# Altium footprint library 51单片机24.PCBLIB: 45 footprints (part 2 of 3)
Each footprint in its own frame and in the unit in brackets; x right, y up, seen from the top. Pads: shape width x height; smd on the part's side, far side on the other; paste and mask are expansions set on the pad; w line width, h text height; cw(c..) or ccw(c..) is an arc to the next point about the centre after c.
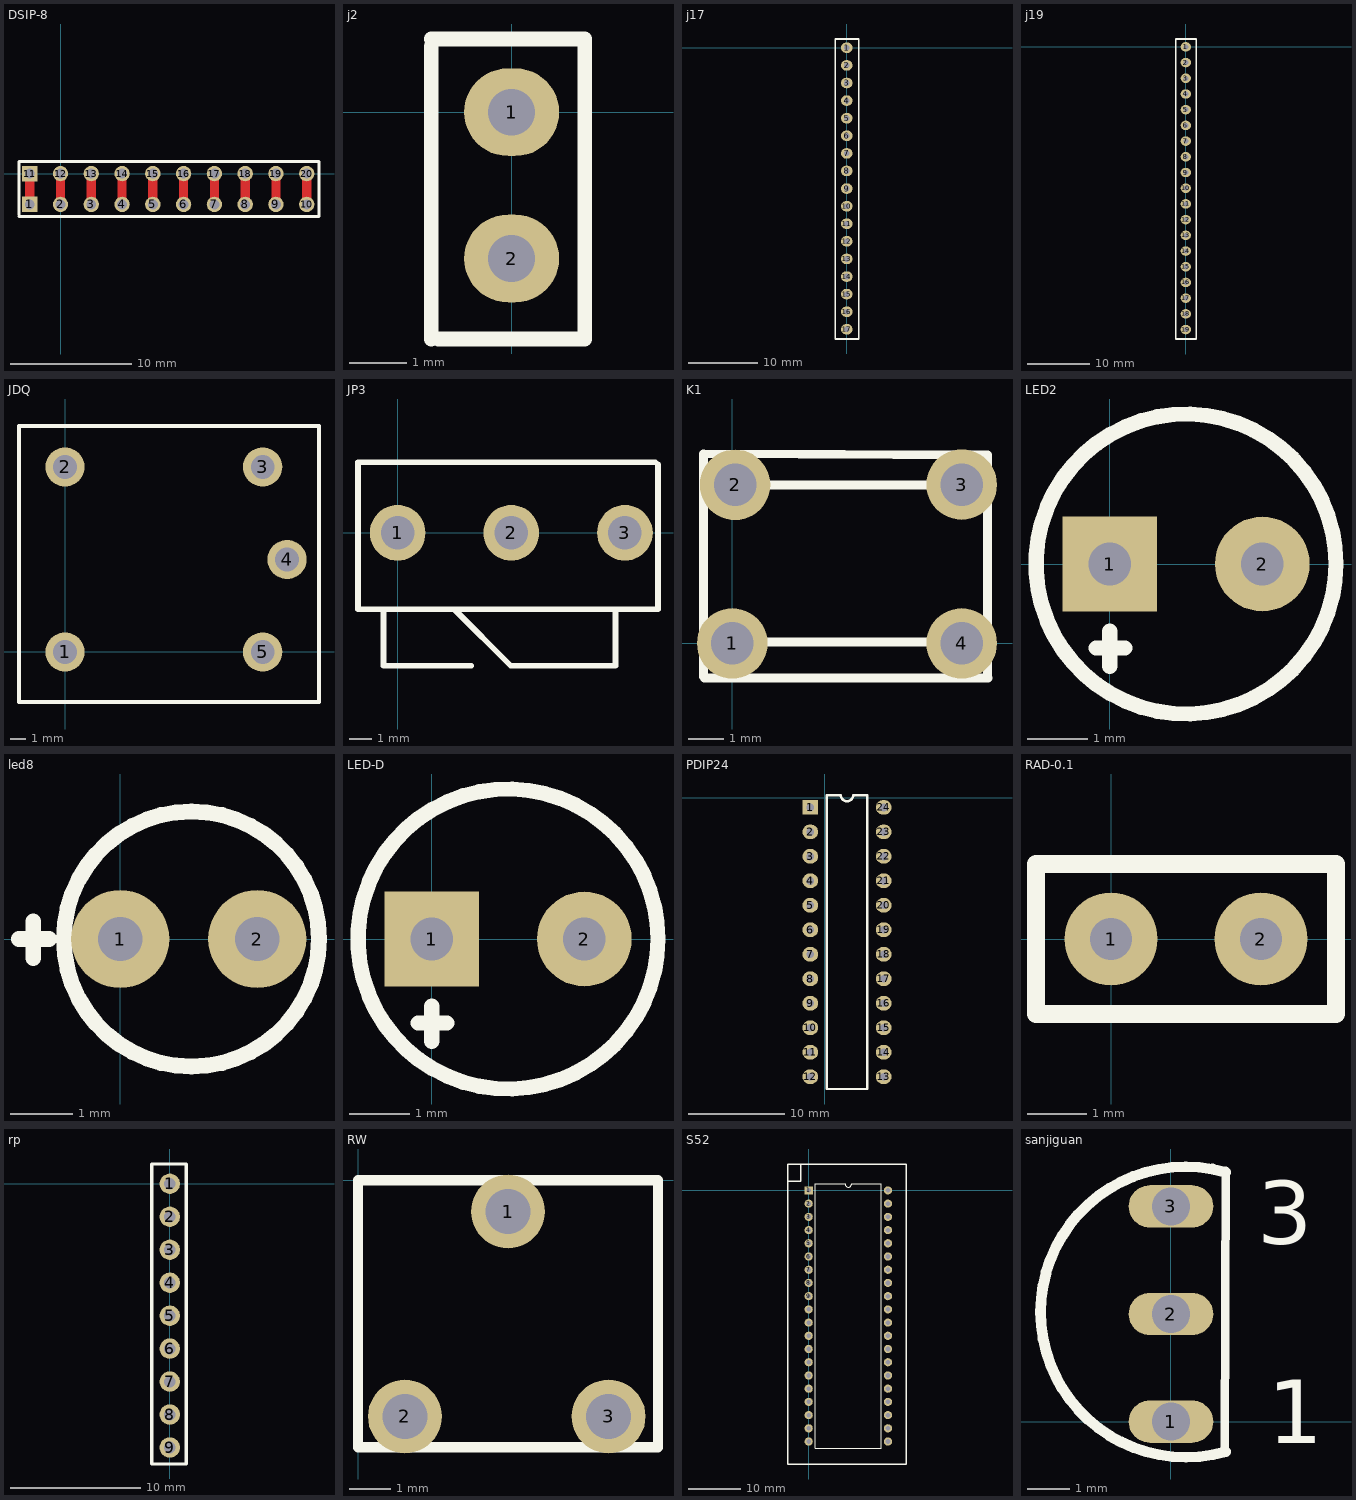
[diagram p1: the footprints below, top view; thin cyan lines are the x and y axes]

## DSIP-8 [mil]
pads (20):
  rect 50x50 hole 32: 1(-100,-100) 11(-100,0)
  round 50 hole 32: 2(0,-100) 3(100,-100) 4(200,-100) 5(300,-100) 6(400,-100) 7(500,-100) 8(600,-100) 9(700,-100) 10(800,-100) 12(0,0) 13(100,0) 14(200,0) 15(300,0) 16(400,0) 17(500,0) 18(600,0) 19(700,0) 20(800,0)
TopLayer:
  lines w30: -100,-80 -100,0 ; 0,-100 0,0 ; 100,-100 100,0 ; 200,-100 200,0 ; 300,-100 300,0 ; 400,-100 400,0 ; 500,-100 500,0 ; 600,-100 600,0 ; 700,-100 700,0 ; 800,-100 800,0
TopOverlay:
  lines w10: -135,-140 840,-140 840,40 -135,40 -135,-135

## j2 [mil]
pads (2):
  oval 65x60 hole 32: 1(0,0) 2(0,-100)
TopOverlay:
  lines w10: -55,-155 -55,45 ; -55,50 50,50 50,-155 -50,-155

## j17 [mil]
pads (17):
  oval 65x60 hole 32: 1(0,0) 2(0,-100) 3(0,-200) 4(0,-300) 5(0,-400) 6(0,-500) 7(0,-600) 8(0,-700) 9(0,-800) 10(0,-900) 11(0,-1000) 12(0,-1100) 13(0,-1200) 14(0,-1300) 15(0,-1400) 16(0,-1500) 17(0,-1600)
TopOverlay:
  lines w10: 65,50 -65,50 -65,-1655 67.5,-1655 67.5,50

## j19 [mil]
pads (19):
  oval 65x60 hole 32: 1(0,0) 2(0,-100) 3(0,-200) 4(0,-300) 5(0,-400) 6(0,-500) 7(0,-600) 8(0,-700) 9(0,-800) 10(0,-900) 11(0,-1000) 12(0,-1100) 13(0,-1200) 14(0,-1300) 15(0,-1400) 16(0,-1500) 17(0,-1600) 18(0,-1700) 19(0,-1800)
TopOverlay:
  lines w10: 65,50 -65,50 -65,-1860 67.5,-1860 67.5,50

## JDQ [mm]
pads (5):
  round 2.5 hole 1.5: 1(0,0) 2(0,11.75) 3(12.55,11.75) 4(14.1,5.875) 5(12.55,0)
TopOverlay:
  lines w0.254: -2.921,-3.175 16.129,-3.175 16.129,14.351 -2.921,14.351 -2.921,-3.175

## JP3 [mm]
pads (3):
  round 2.5 hole 1.5: 1(0,0) 2(5.1,0) 3(10.2,0)
TopOverlay:
  lines w0.254: -1.778,3.071 -1.778,-3.429 11.684,-3.429 11.684,3.071 ; -1.778,3.175 11.557,3.175 ; -0.635,-3.541 -0.635,-5.969 3.302,-5.969 ; 2.413,-3.429 2.54,-3.429 5.08,-5.969 9.779,-5.969 9.779,-3.421

## K1 [mm]
pads (4):
  round 2 hole 1.2: 1(0,0) 2(0.079,4.493) 3(6.5,4.5) 4(6.5,0)
TopLayer:
  lines w0: 0.016,4.463 0.016,4.464
TopOverlay:
  lines w0.254: -0.82,-0.94 -0.81,5.374 7.23,5.342 7.228,-0.982 ; -0.792,-0.98 7.25,-0.98 ; 0.079,4.493 6.683,4.493 ; 0.163,0.04 6.64,0.04

## LED2 [mil]
pads (2):
  rect 62x62 hole 28: 1(0,0)
  round 62 hole 28: 2(100,0)
TopOverlay:
  circle w10: c50,0 r98.23
  lines w10: -9,-55 10,-55 ; 0,-67 0,-44

## led8 [mil]
pads (2):
  round 62 hole 28: 1(0,0) 2(86.61,0)
TopOverlay:
  circle w10: c45,0 r80.62
  lines w10: -64,0 -45,0 ; -55,-12 -55,11

## LED-D [mil]
pads (2):
  rect 62x62 hole 28: 1(0,0)
  round 62 hole 28: 2(100,0)
TopOverlay:
  circle w10: c50,0 r98.23
  lines w10: -9,-55 10,-55 ; 0,-67 0,-44

## PDIP24 [mil]
pads (24):
  rect 65x60 hole 32: 1(-60,-40)
  oval 65x60 hole 32: 2(-60,-140) 3(-60,-240) 4(-60,-340) 5(-60,-440) 6(-60,-540) 7(-60,-640) 8(-60,-740) 9(-60,-840) 10(-60,-940) 11(-60,-1040) 12(-60,-1140) 13(240,-1140) 14(240,-1040) 15(240,-940) 16(240,-840) 17(240,-740) 18(240,-640) 19(240,-540) 20(240,-440) 21(240,-340) 22(240,-240) 23(240,-140) 24(240,-40)
TopOverlay:
  lines w10: 7.5,-1190 172.5,-1190 172.5,10 115,10 cw(c90,10) 65,10 7.5,10 7.5,-1190

## RAD-0.1 [mil]
pads (2):
  round 62 hole 28: 1(0,0) 2(100,0)
TopOverlay:
  lines w12: -50,-50 150,-50 150,50 -50,50 -50,-50

## rp [mil]
pads (9):
  round 62 hole 35: 1(0,0) 2(0,-100) 3(0,-200) 4(0,-300) 5(0,-400) 6(0,-500) 7(0,-600) 8(0,-700) 9(0,-800)
TopOverlay:
  lines w10: -55,-850 50,-850 50,60 -55,60 -55,-850

## RW [mm]
pads (3):
  round 1.8 hole 1.1: 1(3.65,-0.762) 2(1.143,-5.75) 3(6.096,-5.75)
TopOverlay:
  lines w0.254: 0,-6.5 7.3,-6.5 ; 0,-6.462 0,0 ; 0.8,0 0,0 ; 0,0 7.3,0 ; 7.3,-6.5 7.3,0 ; 7.3,-6.5 7.3,0

## S52 [mil]
pads (40):
  rect 62x62 hole 35: 1(0,0)
  round 62 hole 35: 2(0,-100) 3(0,-200) 4(0,-300) 5(0,-400) 6(0,-500) 7(0,-600) 8(0,-700) 9(0,-800) 10(0,-900) 11(0,-1000) 12(0,-1100) 13(0,-1200) 14(0,-1300) 15(0,-1400) 16(0,-1500) 17(0,-1600) 18(0,-1700) 19(0,-1800) 20(0,-1900) 21(600,-1900) 22(600,-1800) 23(600,-1700) 24(600,-1600) 25(600,-1500) 26(600,-1400) 27(600,-1300) 28(600,-1200) 29(600,-1100) 30(600,-1000) 31(600,-900) 32(600,-800) 33(600,-700) 34(600,-600) 35(600,-500) 36(600,-400) 37(600,-300) 38(600,-200) 39(600,-100) 40(600,0)
TopOverlay:
  lines w7.87: 50,-1950 50,50 275,50 ccw(c300,50) 325,50 550,50 550,-1950 50,-1950
  lines w10: -160,70 -60,70 -60,200 ; -160,-2070 740,-2070 740,200 -160,200 -160,-2070

## sanjiguan [mm]
pads (3):
  oval 2x1 hole 0.9: 1(0,0) 2(0,2.54) 3(0,5.08)
TopOverlay:
  lines w0.2: 1.27,-0.635 1.294,5.917
  lines w0.254: 1.286,5.887 ccw(c0.352,2.588) 1.291,-0.71
  text "1" at 2.286,-0.508 h1.5
  text "3" at 2.032,4.191 h1.5